# EAGLE library part EMI7206MUTAG (library Filters)
FILTER LC(PI) 17NH/12PF ESD SMD Manufacturer's datasheet <https://www.onsemi.com/pub/Collateral/EMI7204MU-D.PDF>
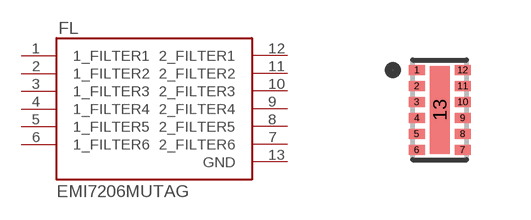
[diagram p2: symbol with the pads of UFDFN-12; footprint UFDFN-12]

Designator prefix FL

## EMI7206MUTAG (CREATED_BY: PCBLayout.com; DIGIKEY_PARTNO: EMI7206MUTAGOSTR-ND; MANUFACTURER: ON Semiconductor; MPN: EMI7206MUTAG; PACKAGE: UFDFN-12)  [UFDFN-12]
1  1_FILTER1  pas
2  1_FILTER2  pas
3  1_FILTER3  pas
4  1_FILTER4  pas
5  1_FILTER5  pas
6  1_FILTER6  pas
7  2_FILTER6  pas
8  2_FILTER5  pas
9  2_FILTER4  pas
10  2_FILTER3  pas
11  2_FILTER2  pas
12  2_FILTER1  pas
13  GND  pas

## Footprint UFDFN-12 (pad centres in mm)
smd 0.4 x 0.25: 1 -0.575,1; 2 -0.575,0.6; 3 -0.575,0.2; 4 -0.575,-0.2; 5 -0.575,-0.6; 6 -0.575,-1; 7 0.575,-1; 8 0.575,-0.6; 9 0.575,-0.2; 10 0.575,0.2; 11 0.575,0.6; 12 0.575,1
smd 0.5 x 2.2: 13 0,0